# EAGLE library part RX95HF (library RX95HF)
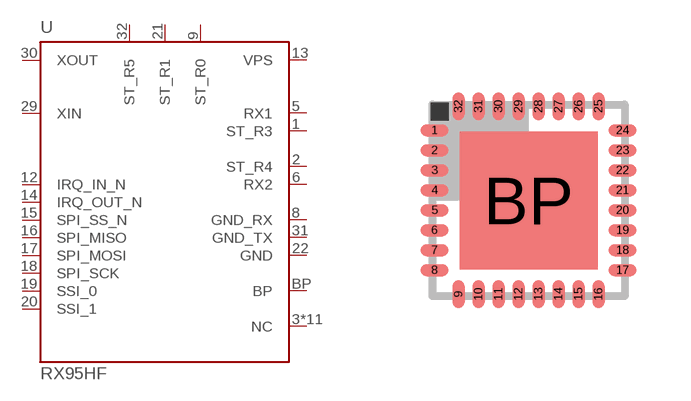
[diagram p0: symbol with the pads of VFQFPN32; footprint VFQFPN32]

Designator prefix U

## RX95HF-  [VFQFPN32]
1  ST_R3  pas
2  ST_R4  pas
3  NC  pas
4  NC  pas
5  RX1  pas
6  RX2  pas
7  NC  pas
8  GND_RX  pwr
9  ST_R0  pwr
10  NC  pas
11  NC  pas
12  IRQ_IN_N
13  VPS
14  IRQ_OUT_N
15  SPI_SS_N
16  SPI_MISO
17  SPI_MOSI
18  SPI_SCK
19  SSI_0
20  SSI_1
21  ST_R1
22  GND  pwr
23  NC  pas
24  NC  pas
25  NC  pas
26  NC  pas
27  NC  pas
28  NC  pas
29  XIN  pas
30  XOUT  pas
31  GND_TX  pwr
32  ST_R5
BP  BP  pwr

## Footprint VFQFPN32 (pad centres in mm)
32-lead very thin fine pitch quad flat no-lead package (5 x 5) Source: Data sheet <http://www.st.com/stonline/products/literature/ds/14771/stm8s105c4.pdf>
smd 0.7 x 0.3: 1 -2.35,1.75; 2 -2.35,1.25; 3 -2.35,0.75; 4 -2.35,0.25; 5 -2.35,-0.25; 6 -2.35,-0.75; 7 -2.35,-1.25; 8 -2.35,-1.75; 17 2.35,-1.75; 18 2.35,-1.25; 19 2.35,-0.75; 20 2.35,-0.25; 21 2.35,0.25; 22 2.35,0.75; 23 2.35,1.25; 24 2.35,1.75
smd 0.3 x 0.7: 9 -1.75,-2.35; 10 -1.25,-2.35; 11 -0.75,-2.35; 12 -0.25,-2.35; 13 0.25,-2.35; 14 0.75,-2.35; 15 1.25,-2.35; 16 1.75,-2.35; 25 1.75,2.35; 26 1.25,2.35; 27 0.75,2.35; 28 0.25,2.35; 29 -0.25,2.35; 30 -0.75,2.35; 31 -1.25,2.35; 32 -1.75,2.35
smd 3.45 x 3.45: BP 0,0